# EAGLE library part PICAXE-28X2 (library PICAXEv2)
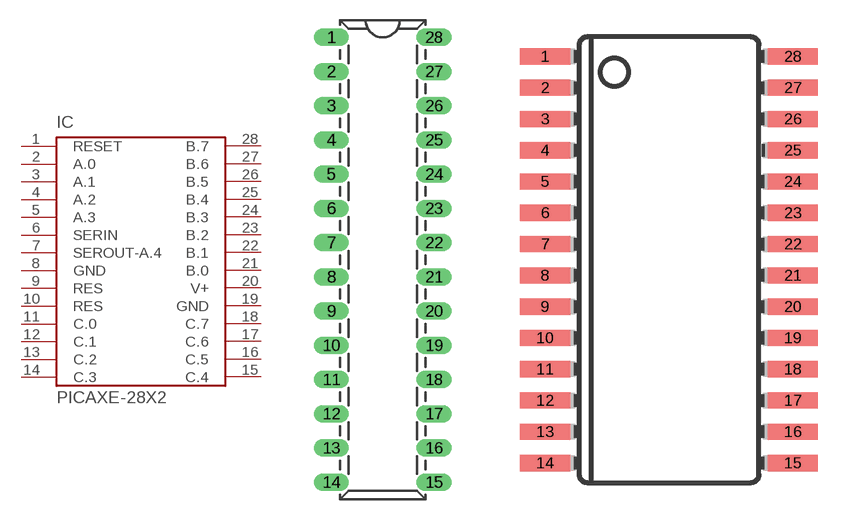
[diagram p4: symbol with the pads of DIL28; footprints DIL28, SOIC28W]

Designator prefix IC

## PICAXE-28X2-DIL  [DIL28]
1  RESET  pwr
2  A.0
3  A.1
4  A.2
5  A.3
6  SERIN  in
7  SEROUT-A.4  out
8  GND  pwr
9  RES
10  RES
11  C.0
12  C.1
13  C.2
14  C.3
15  C.4
16  C.5
17  C.6
18  C.7
19  GND  pwr
20  V+  pwr
21  B.0
22  B.1
23  B.2
24  B.3
25  B.4
26  B.5
27  B.6
28  B.7

## PICAXE-28X2-SMD  [SOIC28W]
Pads as for DIL28

## Footprint DIL28 (pad centres in mm)
drill 0.8 pad 1.27 long: 1 -3.81,16.51; 2 -3.81,13.97; 3 -3.81,11.43; 4 -3.81,8.89; 5 -3.81,6.35; 6 -3.81,3.81; 7 -3.81,1.27; 8 -3.81,-1.27; 9 -3.81,-3.81; 10 -3.81,-6.35; 11 -3.81,-8.89; 12 -3.81,-11.43; 13 -3.81,-13.97; 14 -3.81,-16.51; 15 3.81,-16.51; 16 3.81,-13.97; 17 3.81,-11.43; 18 3.81,-8.89; 19 3.81,-6.35; 20 3.81,-3.81; 21 3.81,-1.27; 22 3.81,1.27; 23 3.81,3.81; 24 3.81,6.35; 25 3.81,8.89; 26 3.81,11.43; 27 3.81,13.97; 28 3.81,16.51

## Footprint SOIC28W (pad centres in mm)
smd 2.032 x 0.66: 1 -5.029,8.255; 2 -5.029,6.985; 3 -5.029,5.715; 4 -5.029,4.445; 5 -5.029,3.175; 6 -5.029,1.905; 7 -5.029,0.635; 8 -5.029,-0.635; 9 -5.029,-1.905; 10 -5.029,-3.175; 11 -5.029,-4.445; 12 -5.029,-5.715; 13 -5.029,-6.985; 14 -5.029,-8.255; 15 5.029,-8.255; 16 5.029,-6.985; 17 5.029,-5.715; 18 5.029,-4.445; 19 5.029,-3.175; 20 5.029,-1.905; 21 5.029,-0.635; 22 5.029,0.635; 23 5.029,1.905; 24 5.029,3.175; 25 5.029,4.445; 26 5.029,5.715; 27 5.029,6.985; 28 5.029,8.255